# Altium footprint library STC.PcbLib: 2 footprints
Each footprint in its own frame and in the unit in brackets; x right, y up, seen from the top. Pads: shape width x height; smd on the part's side, far side on the other; paste and mask are expansions set on the pad; w line width, h text height; cw(c..) or ccw(c..) is an arc to the next point about the centre after c.
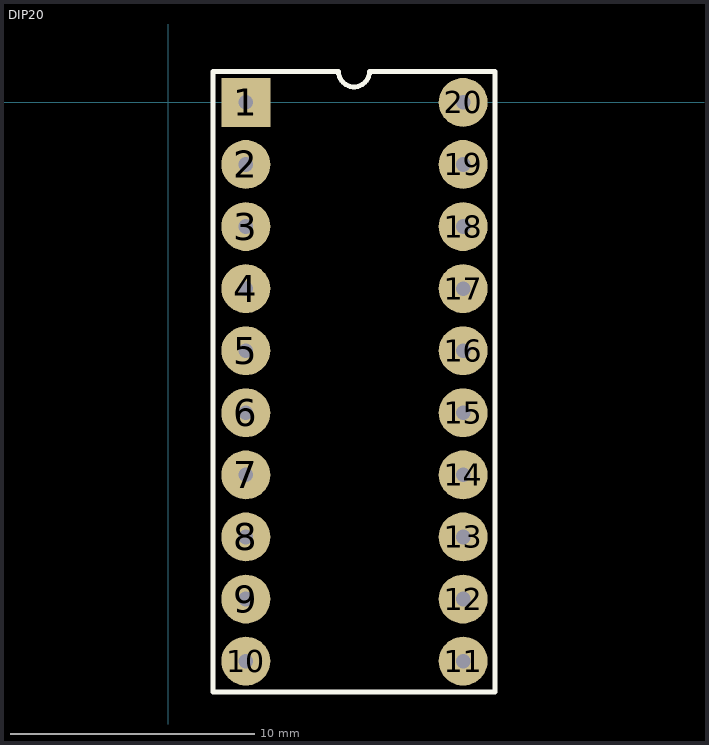
[diagram p0: the footprints below, top view; thin cyan lines are the x and y axes]

## DIP20 [mm]
pads (20):
  rect 2x2 hole 0.6: 1(3.175,0)
  round 2 hole 0.6: 2(3.175,-2.54) 3(3.175,-5.08) 4(3.175,-7.62) 5(3.175,-10.16) 6(3.175,-12.7) 7(3.175,-15.24) 8(3.175,-17.78) 9(3.175,-20.32) 10(3.175,-22.86) 11(12.065,-22.86) 12(12.065,-20.32) 13(12.065,-17.78) 14(12.065,-15.24) 15(12.065,-12.7) 16(12.065,-10.16) 17(12.065,-7.62) 18(12.065,-5.08) 19(12.065,-2.54) 20(12.065,0)
Top Overlay:
  lines w0.2: 1.835,-24.13 1.835,1.27 6.965,1.27 ccw(c7.6,1.27) 8.235,1.27 13.365,1.27 13.365,-24.13 1.835,-24.13

## PCBComponent_1 [mm]